# EAGLE library part STM32F303_LQFP32 (library beetle_drv)
STM32F303 LQFP32 edition according to https://www.st.com/content/ccc/resource/technical/document/datasheet/group3/38/c6/ca/d1/f7/d5/4e/30/DM00092070/files/DM00092070.pdf/jcr:content/translations/en.DM00092070.pdf
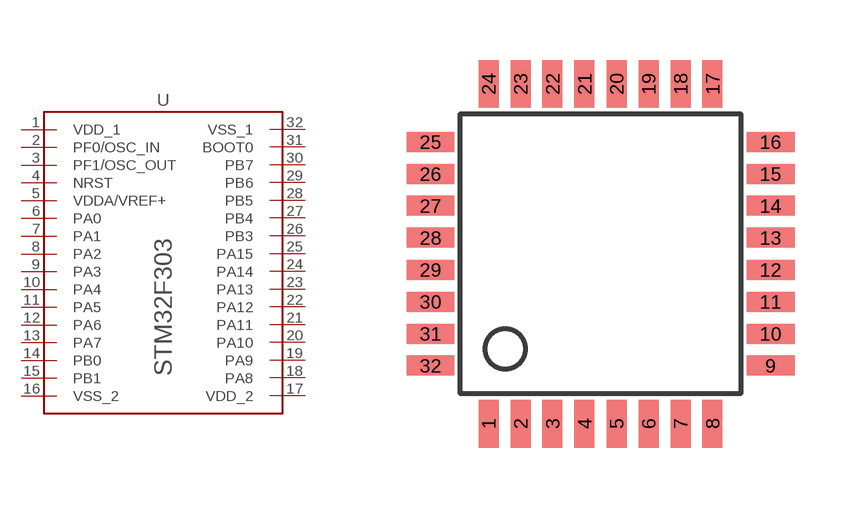
[diagram p2: symbol with the pads of LQFP32; footprint LQFP32]

Designator prefix U

## STM32F303_LQFP32  [LQFP32]
1  VDD_1
2  PF0/OSC_IN
3  PF1/OSC_OUT
4  NRST
5  VDDA/VREF+
6  PA0
7  PA1
8  PA2
9  PA3
10  PA4
11  PA5
12  PA6
13  PA7
14  PB0
15  PB1
16  VSS_2
17  VDD_2
18  PA8
19  PA9
20  PA10
21  PA11
22  PA12
23  PA13
24  PA14
25  PA15
26  PB3
27  PB4
28  PB5
29  PB6
30  PB7
31  BOOT0
32  VSS_1

## Footprint LQFP32 (pad centres in mm)
LQFP32 as according to STM (https://www.st.com/content/ccc/resource/technical/document/datasheet/group3/38/c6/ca/d1/f7/d5/4e/30/DM00092070/files/DM00092070.pdf/jcr:content/translations/en.DM00092070.pdf)
smd 0.5 x 1.2: 1 -2.8,-4.25; 2 -2,-4.25; 3 -1.2,-4.25; 4 -0.4,-4.25; 5 0.4,-4.25; 6 1.2,-4.25; 7 2,-4.25; 8 2.8,-4.25; 17 2.8,4.25; 18 2,4.25; 19 1.2,4.25; 20 0.4,4.25; 21 -0.4,4.25; 22 -1.2,4.25; 23 -2,4.25; 24 -2.8,4.25
smd 1.2 x 0.5: 9 4.25,-2.8; 10 4.25,-2; 11 4.25,-1.2; 12 4.25,-0.4; 13 4.25,0.4; 14 4.25,1.2; 15 4.25,2; 16 4.25,2.8; 25 -4.25,2.8; 26 -4.25,2; 27 -4.25,1.2; 28 -4.25,0.4; 29 -4.25,-0.4; 30 -4.25,-1.2; 31 -4.25,-2; 32 -4.25,-2.8